# Altium footprint library CONN_PROG.PcbLib: 9 footprints
Each footprint in its own frame and in the unit in brackets; x right, y up, seen from the top. Pads: shape width x height; smd on the part's side, far side on the other; paste and mask are expansions set on the pad; w line width, h text height; cw(c..) or ccw(c..) is an arc to the next point about the centre after c.
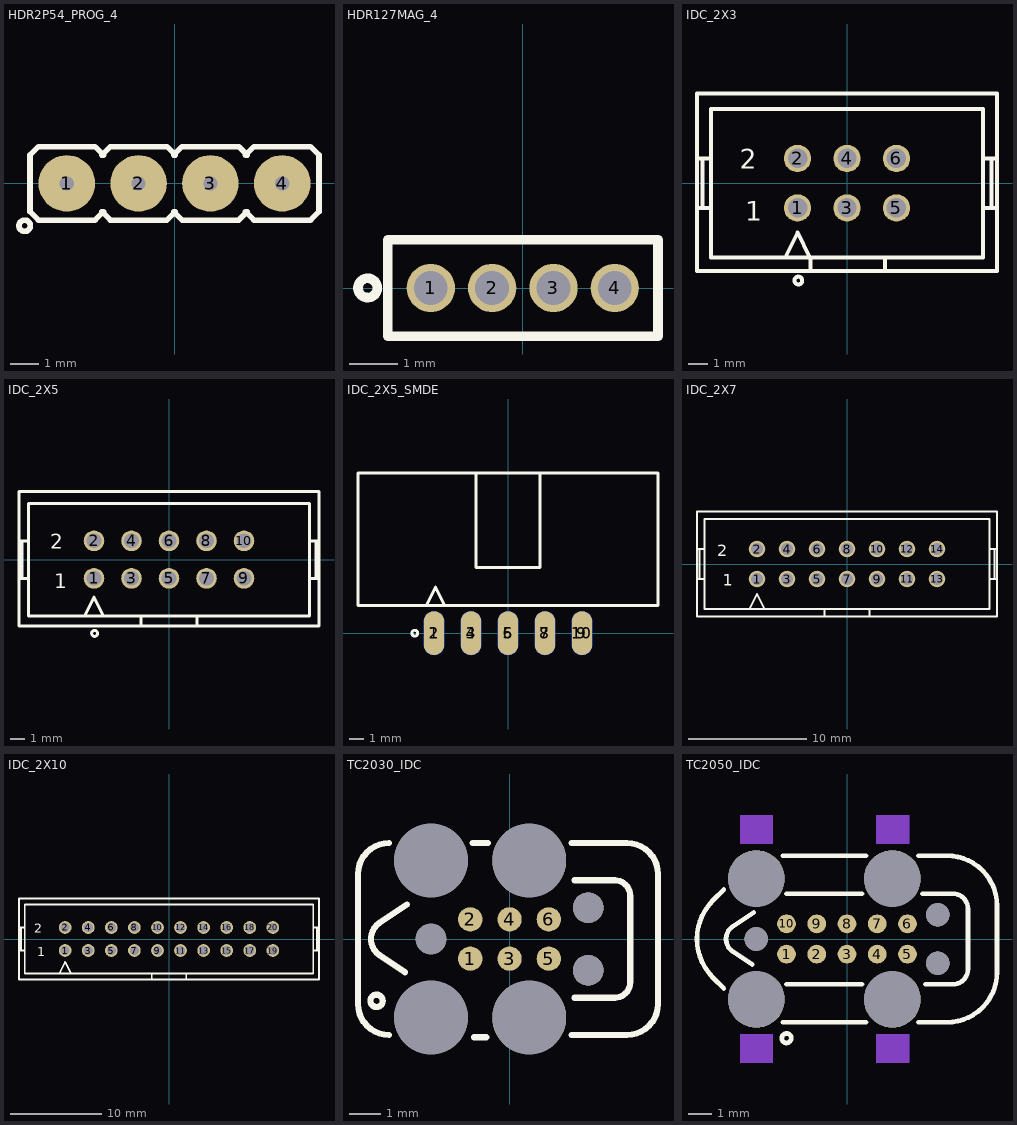
[diagram p0: the footprints below, top view; thin cyan lines are the x and y axes]

## HDR2P54_PROG_4 [mm] "Header 2.54mm 4pin for programming"
pads (4):
  round 2 / inner round 0.8 / far side round 0.8 hole 0.5 mask+0.1: 1(-3.81,0) 2(-1.27,0) 3(1.27,0)
  round 2 / inner round 0.5 / far side round 0.5 hole 0.5 mask+0.1: 4(3.81,0)
Top Overlay:
  circle w0.2: c-5.3,-1.5 r0.2
  lines w0.2: -2.57,-1 -2.27,-1.3 -0.27,-1.3 0.03,-1 ; -2.57,1 -2.27,1.3 -0.27,1.3 0.03,1 ; -2.51,-1 -2.81,-1.3 -4.81,-1.3 -5.11,-1 -5.11,1 -4.81,1.3 -2.81,1.3 -2.51,1 ; -0.03,-1 0.27,-1.3 2.27,-1.3 2.57,-1 ; -0.03,1 0.27,1.3 2.27,1.3 2.57,1 ; 2.51,-1 2.81,-1.3 4.81,-1.3 5.11,-1 5.11,1 4.81,1.3 2.81,1.3 2.51,1

## HDR127MAG_4 [mm] "HEADER 1.27mm with magnet"
height 16.4
pads (4):
  round 1 / inner round 1 / far side oval 1x1.4 hole 0.7 mask+0.05: 1(-1.906,0.001) 2(-0.636,0.001) 3(0.634,0.001) 4(1.904,0.001)
Top Overlay:
  circle w0.2: c-3.214,0.001 r0.2
  lines w0.2: -2.801,-0.999 2.799,-0.999 2.799,1.001 -2.801,1.001 -2.801,-0.999
Bottom Overlay:
  circle w0.2: c0,2.9 r1
  lines w0.2: -2.2,0.7 -2.2,2.9 cw(c0,2.9) 2.2,2.9 2.2,0.7 -2.2,0.7
3D body "female_header_a-bl127-eg-g04d.stp": height 3.45, standoff -2.35, extent -2.74,-0.899 2.74,0.901
3D body: height 2, standoff 0, extent -1,1.9 1,3.9

## IDC_2X3 [mm]
pads (6):
  round 1.4 / inner round 1.4 / far side oval 1.4x2.2 hole 1 mask+0.1: 1(-2.54,-1.27) 2(-2.54,1.27) 3(0,-1.27) 4(0,1.27) 5(2.54,-1.27) 6(2.54,1.27)
Top Overlay:
  circle w0.2: c-2.5,-5 r0.2
  lines w0.2: -7.62,-1.27 -6.985,-1.27 ; -7.62,1.27 -6.985,1.27 ; -7.408,-1.27 -7.408,1.27 ; -3.175,-3.81 -2.54,-2.54 -1.905,-3.81 ; -1.865,-4.445 -1.865,-3.81 ; 1.945,-4.445 1.945,-3.81 ; 6.985,-1.27 7.62,-1.27 ; 6.985,1.27 7.62,1.27 ; 7.408,-1.27 7.408,1.27 ; -7.7,-4.5 7.7,-4.5 7.7,4.6 -7.7,4.6 -7.7,-4.5 ; -6.985,-3.81 6.985,-3.81 6.985,3.81 -6.985,3.81 -6.985,-3.81
  text "2" at -5.512,0.737 h1
  text "1" at -5.232,-1.93 h1
3D body "61200621621.stp": height 9.13, standoff -2.98, extent -7.64,-4.425 7.64,4.75

## IDC_2X5 [mm] "IDC, HEADER BOX 2X5, 10p, 2.54mm pitch"
pads (10):
  round 1.4 / inner round 1.4 / far side oval 1.4x2.2 hole 1 mask+0.1: 1(-5.08,-1.27) 2(-5.08,1.27) 3(-2.54,-1.27) 4(-2.54,1.27) 5(0,-1.27) 6(0,1.27) 7(2.54,-1.27) 8(2.54,1.27) 9(5.08,-1.27) 10(5.08,1.27)
Top Overlay:
  circle w0.2: c-5.04,-5 r0.2
  lines w0.2: -10.16,-1.27 -9.525,-1.27 ; -10.16,1.27 -9.525,1.27 ; -9.948,-1.27 -9.948,1.27 ; -5.715,-3.81 -5.08,-2.54 -4.445,-3.81 ; -1.905,-4.445 -1.905,-3.81 ; 1.905,-4.445 1.905,-3.81 ; 9.525,-1.27 10.16,-1.27 ; 9.525,1.27 10.16,1.27 ; 9.948,-1.27 9.948,1.27 ; -1.905,-3.81 1.905,-3.81 ; -1.905,-3.81 -9.525,-3.81 -9.525,3.81 9.525,3.81 9.525,-3.81 1.905,-3.81 ; -10.16,-4.5 10.16,-4.5 10.16,4.6 -10.16,4.6 -10.16,-4.5
  text "2" at -8.052,0.737 h1
  text "1" at -7.772,-1.93 h1
3D body "61201021621.stp": height 9.13, standoff -2.98, extent -10.18,-4.425 10.18,4.75

## IDC_2X5_SMDE [mm] "IDC, HEADER BOX 2X5, 10p, 2.54mm pitch"
pads (10):
  oval 1.4x3 smd mask+0.1: 1(-5.08,0) 3(-2.54,0) 5(0,0) 7(2.54,0) 9(5.08,0)
  oval 1.4x3 smd far side mask+0.1: 2(-5.08,0) 4(-2.54,0) 6(0,0) 8(2.54,0) 10(5.08,0)
Top Overlay:
  circle w0.2: c-6.4,0 r0.2
  lines w0.2: -5.615,1.89 -4.98,3.16 -4.345,1.89 ; -2.2,11 -2.2,4.5 2.2,4.5 2.2,11 ; -10.3,1.9 -10.3,11 10.3,11 10.3,1.9 -10.3,1.9
3D body "61201021621.stp": height 3.62, standoff -5.55, extent -10.18,-1.2 10.18,10.9

## IDC_2X7 [mm] "IDC, HEADER BOX 2X7, 14p, 2.54mm pitch"
pads (14):
  round 1.4 / inner round 1.4 / far side oval 1.4x2.2 hole 1 mask+0.1: 1(-7.62,-1.27) 2(-7.62,1.27) 3(-5.08,-1.27) 4(-5.08,1.27) 5(-2.54,-1.27) 6(-2.54,1.27) 7(0,-1.27) 8(0,1.27) 9(2.54,-1.27) 10(2.54,1.27) 11(5.08,-1.27) 12(5.08,1.27) 13(7.62,-1.27) 14(7.62,1.27)
Top Overlay:
  lines w0.2: -12.7,-1.27 -12.065,-1.27 ; -12.7,1.27 -12.065,1.27 ; -12.488,-1.27 -12.488,1.27 ; -8.255,-3.81 -7.62,-2.54 -6.985,-3.81 ; -1.905,-4.445 -1.905,-3.81 ; 1.905,-4.445 1.905,-3.81 ; 12.065,-1.27 12.7,-1.27 ; 12.065,1.27 12.7,1.27 ; 12.488,-1.27 12.488,1.27 ; -1.905,-3.81 1.905,-3.81 ; -1.905,-3.81 -12.065,-3.81 -12.065,3.81 12.065,3.81 12.065,-3.81 1.905,-3.81 ; -12.7,-4.445 12.7,-4.445 12.7,4.445 -12.7,4.445 -12.7,-4.445
  text "2" at -10.973,0.66 h1
  text "1" at -10.541,-1.854 h1
3D body "TE_1-1634688-4_IDC14_V.STEP": height 9.1, standoff -3.2, extent -12.73,-4.55 12.7,4.55

## IDC_2X10 [mm]
pads (20):
  round 1.4 / inner round 1.4 / far side oval 1.4x2.2 hole 1 mask+0.1: 1(-11.43,-1.27) 2(-11.43,1.27) 3(-8.89,-1.27) 4(-8.89,1.27) 5(-6.35,-1.27) 6(-6.35,1.27) 7(-3.81,-1.27) 8(-3.81,1.27) 9(-1.27,-1.27) 10(-1.27,1.27) 11(1.27,-1.27) 12(1.27,1.27) 13(3.81,-1.27) 14(3.81,1.27) 15(6.35,-1.27) 16(6.35,1.27) 17(8.89,-1.27) 18(8.89,1.27) 19(11.43,-1.27) 20(11.43,1.27)
Top Overlay:
  lines w0.2: -16.51,-1.27 -15.875,-1.27 ; -16.51,1.27 -15.875,1.27 ; -16.298,-1.27 -16.298,1.27 ; -12.065,-3.81 -11.43,-2.54 -10.795,-3.81 ; -1.905,-4.445 -1.905,-3.81 ; 1.905,-4.445 1.905,-3.81 ; 15.875,-1.27 16.51,-1.27 ; 15.875,1.27 16.51,1.27 ; 16.298,-1.27 16.298,1.27 ; -1.905,-3.81 1.905,-3.81 ; -1.905,-3.81 -15.875,-3.81 -15.875,3.81 15.875,3.81 15.875,-3.81 1.905,-3.81 ; -16.51,-4.445 16.51,-4.445 16.51,4.445 -16.51,4.445 -16.51,-4.445
  text "1" at -14.529,-1.905 h1
  text "2" at -14.859,0.686 h1
3D body "61202021621.stp": height 9.13, standoff -2.98, extent -16.53,-4.425 16.53,4.75

## TC2030_IDC [mil] "TC2030-IDC Tag-Connect cables"
pads (13):
  round 31 smd paste-15.5 mask+2.95: 1(-50,-25) 2(-50,25) 3(0,-25) 4(0,25) 5(50,-25) 6(50,25)
  round 94 hole 94 unplated paste-99999: ""(-100,-100) ""(-100,100) ""(25,-100) ""(25,100)
  round 39 hole 39 unplated paste-99999: ""(-100,0) ""(100,-40) ""(100,40)
Top Overlay:
  circle w7.87: c-169.29,-78.74 r7.87
  lines w7.87: -153.54,-122.05 cw(c-153.54,-82.68) -192.91,-82.68 -192.91,82.68 cw(c-153.54,82.68) -153.54,122.05 ; -132.92,-42.31 -166.38,-20 cw(c-151.38,0) -166.38,20 -130.61,43.85 ; -47.24,122.05 -27.56,122.05 ; -45.35,-125 -29.65,-125 ; 78.74,-122.05 149.61,-122.05 ccw(c149.61,-82.68) 188.98,-82.68 188.98,82.68 ccw(c149.61,82.68) 149.61,122.05 78.74,122.05 ; 82.68,-74.8 133.86,-74.8 ccw(c133.86,-55.12) 153.54,-55.12 153.54,55.12 ccw(c133.86,55.12) 133.86,74.8 82.68,74.8
3D body "TC2030.stp": height 1566.93, standoff -66.93, extent -188.98,-118.11 185.04,118.11

## TC2050_IDC [mil] "TC2050-IDC Tag-Connect cables"
pads (17):
  round 31 smd paste-15.75: 1(-100,-25) 2(-50,-25) 3(0,-25) 4(50,-25) 5(100,-25) 6(100,25) 7(50,25) 8(0,25) 9(-50,25) 10(-100,25)
  round 93.5 hole 93.5 unplated: ""(-150,-100) ""(-150,100) ""(75,-100) ""(75,100)
  round 39 hole 39 unplated: ""(-150,0) ""(150,-40) ""(150,40)
Bottom Layer keep-out:
  region: 102.95,204.72 47.83,204.72 47.83,157.48 102.95,157.48
  region: -122.05,204.72 -177.17,204.72 -177.17,157.48 -122.05,157.48
  region: 102.95,-157.48 47.83,-157.48 47.83,-204.72 102.95,-204.72
  region: -122.05,-157.48 -177.17,-157.48 -177.17,-204.72 -122.05,-204.72
Top Overlay:
  circle w7.87: c-100,-164.02 r7.87
  lines w7.87: -203.74,-81.69 -221.58,-63.85 cw(c-157.74,0) -248.03,0 cw(c-157.74,0) -221.58,63.85 -203.74,81.69 ; -156.54,-42.31 -190,-20 cw(c-175,0) -190,20 -154.23,43.85 ; -106.3,-137.8 31.5,-137.8 ; -106.3,137.8 31.5,137.8 ; -100,-75 25,-75 ; -100,75 -31.25,75 25,75 ; 118.11,-137.8 165.35,-137.8 ccw(c165.35,-55.12) 248.03,-55.12 248.03,55.12 ccw(c165.35,55.12) 165.35,137.8 ; 118.11,137.55 165.6,137.55 ; 125,75 175,75 cw(c175,50) 200,50 200,-50 cw(c175,-50) 175,-75 130,-75
3D body "TAG_CONNECT_TC2050-IDC.STEP": height 1152.76, standoff -117.87, extent -244.97,-164.29 245,164.29